# Altium integrated library Integrated_Library1b.IntLib: 1312 symbols (part 40 of 58)
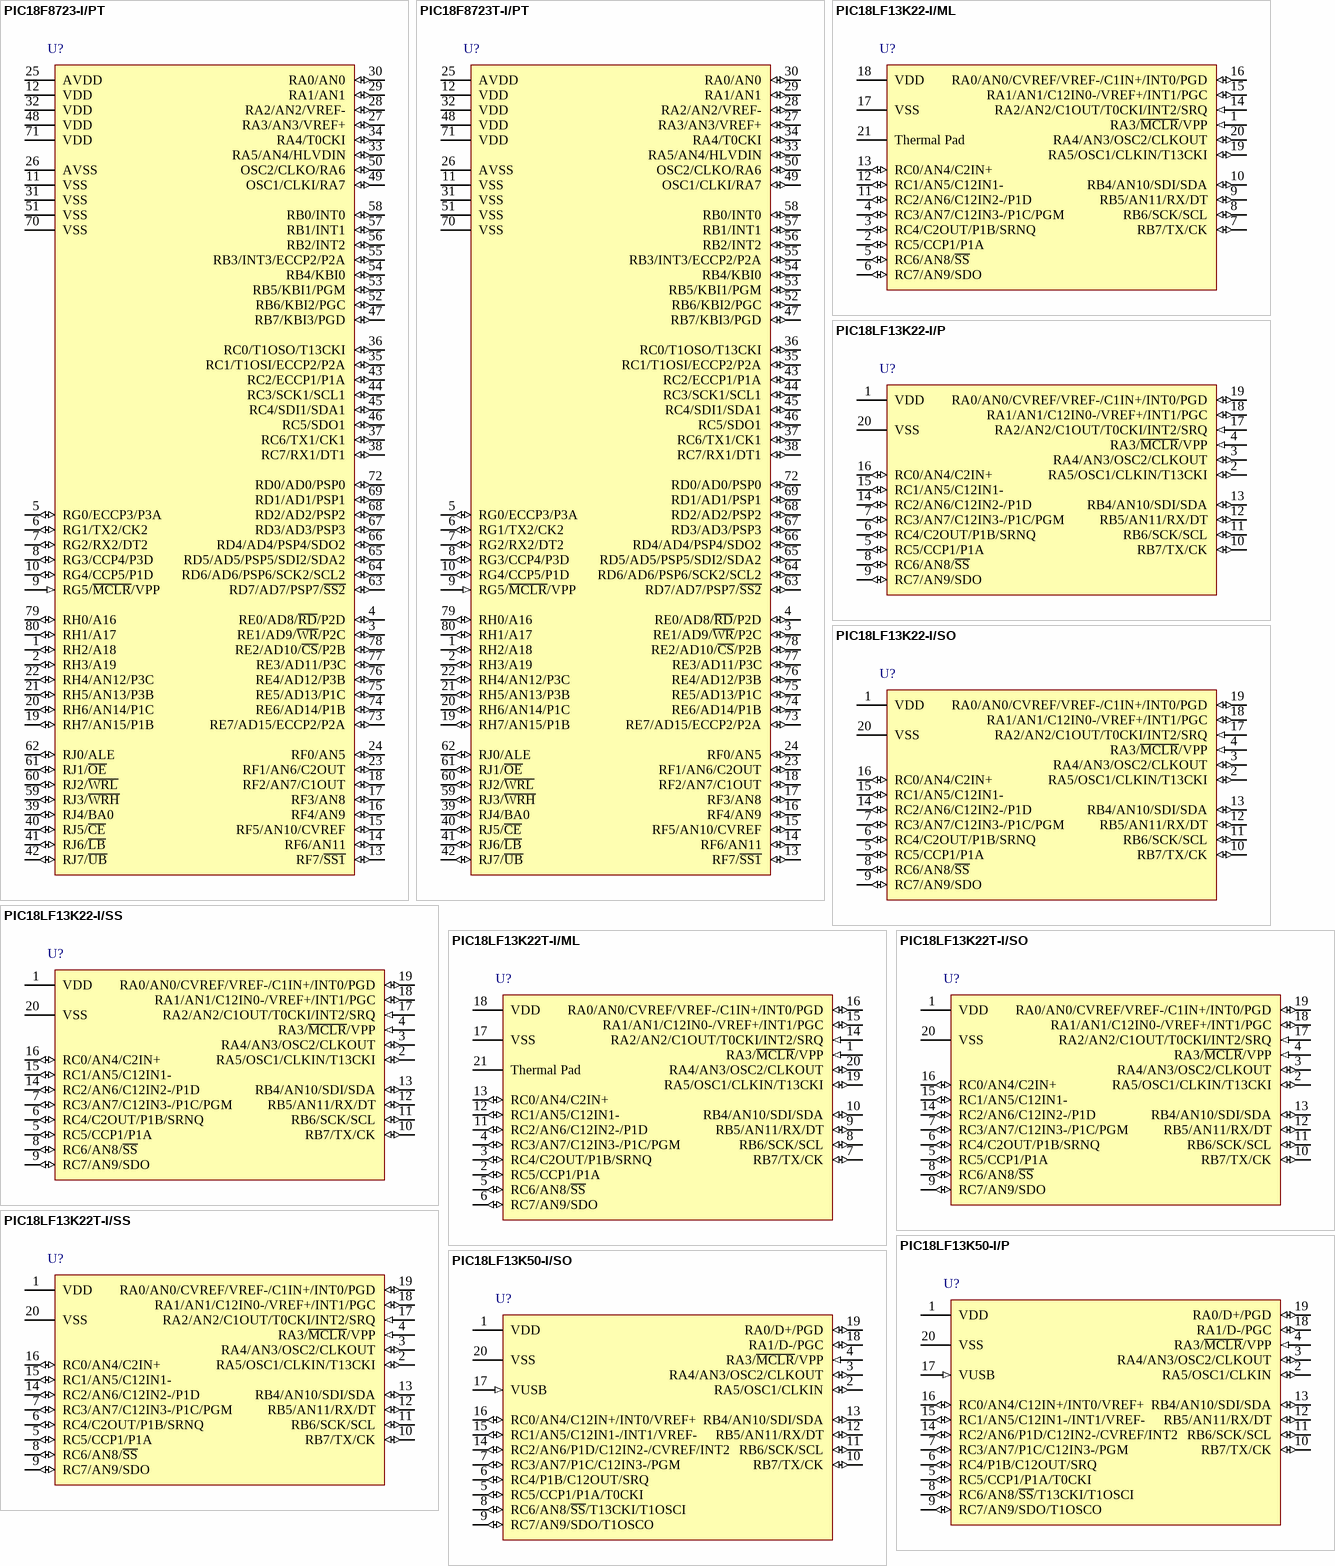
[diagram p188: symbols PIC18F8723-I/PT to PIC18LF13K50-I/SO]

## PIC18LF13K22-I/ML
designator U?
Flash Microcontroller with nanoWatt XLP Technology, 20-pin QFN, Industrial Temperature; FirstPublished: 2-Dec-2009; DatasheetVersion: revC, Oct-2009; PackageVersion: revBB, Aug-2009; PackageReference: QFN-ML20; Publisher: Altium Limited; PackageDescription: 20-Lead Plastic Quad Flat, No Lead Package (ML) - 4x4x0.9 mm Body [QFN]; Supplier 1: Digi-Key; Supplier Part Number 1: PIC18LF13K22-I/ML-ND; Supplier 2: Farnell; Supplier Part Number 2: 1770696; Supplier 3: Newark; Supplier Part Number 3: 07P9694; ComponentLink1Description: Datasheet; ComponentLink1URL: http://ww1.microchip.com/downloads/en/DeviceDoc/41365C.pdf; ComponentLink2Description: Packaging Specification; ComponentLink2URL: http://www.microchip.com/stellent/groups/techpub_sg/documents/packagingspec/en012702.pdf; ComponentLink3Description: Microchip.com Home; ComponentLink3URL: http://www.microchip.com/
footprint QFN-ML20_N (QFN, 20-Leads, Body 4x4mm, Pitch 0.5mm, IPC Medium Density)
footprint QFN-ML20_L (QFN, 20-Leads, Body 4x4mm, Pitch 0.5mm, IPC High Density)
footprint QFN-ML20_M (QFN, 20-Leads, Body 4x4mm, Pitch 0.5mm, IPC Low Density)
pins: 1 RA3/~{MCLR}/VPP (in), 2 RC5/CCP1/P1A (io), 3 RC4/C2OUT/P1B/SRNQ (io), 4 RC3/AN7/C12IN3-/P1C/PGM (io), 5 RC6/AN8/~{SS} (io), 6 RC7/AN9/SDO (io), 7 RB7/TX/CK (io), 8 RB6/SCK/SCL (io), 9 RB5/AN11/RX/DT (io), 10 RB4/AN10/SDI/SDA (io), 11 RC2/AN6/C12IN2-/P1D (io), 12 RC1/AN5/C12IN1- (io), 13 RC0/AN4/C2IN+ (io), 14 RA2/AN2/C1OUT/T0CKI/INT2/SRQ (in), 15 RA1/AN1/C12IN0-/VREF+/INT1/PGC (io), 16 RA0/AN0/CVREF/VREF-/C1IN+/INT0/PGD (io), 17 VSS (power), 18 VDD (power), 19 RA5/OSC1/CLKIN/T13CKI (io), 20 RA4/AN3/OSC2/CLKOUT (io), 21 Thermal Pad (power)

## PIC18LF13K22-I/P
designator U?
Flash Microcontroller with nanoWatt XLP Technology, 20-pin PDIP, Industrial Temperature; FirstPublished: 2-Dec-2009; DatasheetVersion: revC, Oct-2009; PackageVersion: revBB, Aug-2009; PackageReference: PDIP300-P20; Publisher: Altium Limited; PackageDescription: 20-Lead Plastic Dual In-Line (P) - 300 mil Body [PDIP]; Supplier 1: Digi-Key; Supplier Part Number 1: PIC18LF13K22-I/P-ND; Supplier 2: Farnell; Supplier Part Number 2: 1770697; Supplier 3: Newark; Supplier Part Number 3: 07P9695; ComponentLink1Description: Datasheet; ComponentLink1URL: http://ww1.microchip.com/downloads/en/DeviceDoc/41365C.pdf; ComponentLink2Description: Packaging Specification; ComponentLink2URL: http://www.microchip.com/stellent/groups/techpub_sg/documents/packagingspec/en012702.pdf; ComponentLink3Description: Microchip.com Home; ComponentLink3URL: http://www.microchip.com/
footprint PDIP300-P20 (DIP, 20-Leads, Row Spacing 7.62mm, Pitch 2.54mm, Body 25.9x6.6mm)
pins: 1 VDD (power), 2 RA5/OSC1/CLKIN/T13CKI (io), 3 RA4/AN3/OSC2/CLKOUT (io), 4 RA3/~{MCLR}/VPP (in), 5 RC5/CCP1/P1A (io), 6 RC4/C2OUT/P1B/SRNQ (io), 7 RC3/AN7/C12IN3-/P1C/PGM (io), 8 RC6/AN8/~{SS} (io), 9 RC7/AN9/SDO (io), 10 RB7/TX/CK (io), 11 RB6/SCK/SCL (io), 12 RB5/AN11/RX/DT (io), 13 RB4/AN10/SDI/SDA (io), 14 RC2/AN6/C12IN2-/P1D (io), 15 RC1/AN5/C12IN1- (io), 16 RC0/AN4/C2IN+ (io), 17 RA2/AN2/C1OUT/T0CKI/INT2/SRQ (in), 18 RA1/AN1/C12IN0-/VREF+/INT1/PGC (io), 19 RA0/AN0/CVREF/VREF-/C1IN+/INT0/PGD (io), 20 VSS (power)

## PIC18LF13K22-I/SO
designator U?
Flash Microcontroller with nanoWatt XLP Technology, 20-pin SOIC, Industrial Temperature; FirstPublished: 2-Dec-2009; DatasheetVersion: revC, Oct-2009; PackageVersion: revBB, Aug-2009; PackageReference: SOIC-SO20; Publisher: Altium Limited; PackageDescription: 20-Lead Plastic Small Outline (SO) - Wide 7.50mm Body [SOIC]; Supplier 1: Digi-Key; Supplier Part Number 1: PIC18LF13K22-I/SO-ND; Supplier 2: Farnell; Supplier Part Number 2: 1770698; Supplier 3: Newark; Supplier Part Number 3: 07P9696; Code_JEDEC: MS-013-AC; Code_IPC: SOIC127P1030-20; ComponentLink1Description: Datasheet; ComponentLink1URL: http://ww1.microchip.com/downloads/en/DeviceDoc/41365C.pdf; ComponentLink2Description: Packaging Specification; ComponentLink2URL: http://www.microchip.com/stellent/groups/techpub_sg/documents/packagingspec/en012702.pdf; ComponentLink3Description: Microchip.com Home; ComponentLink3URL: http://www.microchip.com/
footprint SOIC-SO20_N (SOIC, 20-Leads, Body 12.8x7.5mm, Pitch 1.27mm, IPC Medium Density)
footprint SOIC-SO20_L (SOIC, 20-Leads, Body 12.8x7.5mm, Pitch 1.27mm, IPC High Density)
footprint SOIC-SO20_M (SOIC, 20-Leads, Body 12.8x7.5mm, Pitch 1.27mm, IPC Low Density)
pins: 1 VDD (power), 2 RA5/OSC1/CLKIN/T13CKI (io), 3 RA4/AN3/OSC2/CLKOUT (io), 4 RA3/~{MCLR}/VPP (in), 5 RC5/CCP1/P1A (io), 6 RC4/C2OUT/P1B/SRNQ (io), 7 RC3/AN7/C12IN3-/P1C/PGM (io), 8 RC6/AN8/~{SS} (io), 9 RC7/AN9/SDO (io), 10 RB7/TX/CK (io), 11 RB6/SCK/SCL (io), 12 RB5/AN11/RX/DT (io), 13 RB4/AN10/SDI/SDA (io), 14 RC2/AN6/C12IN2-/P1D (io), 15 RC1/AN5/C12IN1- (io), 16 RC0/AN4/C2IN+ (io), 17 RA2/AN2/C1OUT/T0CKI/INT2/SRQ (in), 18 RA1/AN1/C12IN0-/VREF+/INT1/PGC (io), 19 RA0/AN0/CVREF/VREF-/C1IN+/INT0/PGD (io), 20 VSS (power)

## PIC18LF13K22-I/SS
designator U?
Flash Microcontroller with nanoWatt XLP Technology, 20-pin SSOP, Industrial Temperature; FirstPublished: 2-Dec-2009; DatasheetVersion: revC, Oct-2009; PackageVersion: revBB, Aug-2009; PackageReference: SSOP-SS20; Publisher: Altium Limited; PackageDescription: 20-Lead Plastic Shrink Small Outline (SS) - 5.3mm Body [SSOP]; Supplier 1: Digi-Key; Supplier Part Number 1: PIC18LF13K22-I/SS-ND; Supplier 2: Farnell; Supplier Part Number 2: 1770699; Supplier 3: Newark; Supplier Part Number 3: 07P9697; Code_JEDEC: MO-150; Code_IPC: SOP65P780-20; ComponentLink1Description: Datasheet; ComponentLink1URL: http://ww1.microchip.com/downloads/en/DeviceDoc/41365C.pdf; ComponentLink2Description: Packaging Specification; ComponentLink2URL: http://www.microchip.com/stellent/groups/techpub_sg/documents/packagingspec/en012702.pdf; ComponentLink3Description: Microchip.com Home; ComponentLink3URL: http://www.microchip.com/
footprint SSOP-SS20_N (SOP, 20-Leads, Body 7.2x5.2mm, Pitch 0.65mm, IPC Medium Density)
footprint SSOP-SS20_L (SOP, 20-Leads, Body 7.2x5.2mm, Pitch 0.65mm, IPC High Density)
footprint SSOP-SS20_M (SOP, 20-Leads, Body 7.2x5.2mm, Pitch 0.65mm, IPC Low Density)
pins: 1 VDD (power), 2 RA5/OSC1/CLKIN/T13CKI (io), 3 RA4/AN3/OSC2/CLKOUT (io), 4 RA3/~{MCLR}/VPP (in), 5 RC5/CCP1/P1A (io), 6 RC4/C2OUT/P1B/SRNQ (io), 7 RC3/AN7/C12IN3-/P1C/PGM (io), 8 RC6/AN8/~{SS} (io), 9 RC7/AN9/SDO (io), 10 RB7/TX/CK (io), 11 RB6/SCK/SCL (io), 12 RB5/AN11/RX/DT (io), 13 RB4/AN10/SDI/SDA (io), 14 RC2/AN6/C12IN2-/P1D (io), 15 RC1/AN5/C12IN1- (io), 16 RC0/AN4/C2IN+ (io), 17 RA2/AN2/C1OUT/T0CKI/INT2/SRQ (in), 18 RA1/AN1/C12IN0-/VREF+/INT1/PGC (io), 19 RA0/AN0/CVREF/VREF-/C1IN+/INT0/PGD (io), 20 VSS (power)

## PIC18LF13K22T-I/ML
designator U?
Flash Microcontroller with nanoWatt XLP Technology, 20-pin QFN, Industrial Temperature, Tape and Reel; FirstPublished: 2-Dec-2009; DatasheetVersion: revC, Oct-2009; PackageVersion: revBB, Aug-2009; PackageReference: QFN-ML20; Publisher: Altium Limited; PackageDescription: 20-Lead Plastic Quad Flat, No Lead Package (ML) - 4x4x0.9 mm Body [QFN]; Supplier 1: Digi-Key; Supplier Part Number 1: PIC18LF13K22T-I/ML-ND; Supplier 2: Newark; Supplier Part Number 2: 07P9698; ComponentLink1Description: Datasheet; ComponentLink1URL: http://ww1.microchip.com/downloads/en/DeviceDoc/41365C.pdf; ComponentLink2Description: Packaging Specification; ComponentLink2URL: http://www.microchip.com/stellent/groups/techpub_sg/documents/packagingspec/en012702.pdf; ComponentLink3Description: Microchip.com Home; ComponentLink3URL: http://www.microchip.com/
footprint QFN-ML20_N (QFN, 20-Leads, Body 4x4mm, Pitch 0.5mm, IPC Medium Density)
footprint QFN-ML20_L (QFN, 20-Leads, Body 4x4mm, Pitch 0.5mm, IPC High Density)
footprint QFN-ML20_M (QFN, 20-Leads, Body 4x4mm, Pitch 0.5mm, IPC Low Density)
pins: 1 RA3/~{MCLR}/VPP (in), 2 RC5/CCP1/P1A (io), 3 RC4/C2OUT/P1B/SRNQ (io), 4 RC3/AN7/C12IN3-/P1C/PGM (io), 5 RC6/AN8/~{SS} (io), 6 RC7/AN9/SDO (io), 7 RB7/TX/CK (io), 8 RB6/SCK/SCL (io), 9 RB5/AN11/RX/DT (io), 10 RB4/AN10/SDI/SDA (io), 11 RC2/AN6/C12IN2-/P1D (io), 12 RC1/AN5/C12IN1- (io), 13 RC0/AN4/C2IN+ (io), 14 RA2/AN2/C1OUT/T0CKI/INT2/SRQ (in), 15 RA1/AN1/C12IN0-/VREF+/INT1/PGC (io), 16 RA0/AN0/CVREF/VREF-/C1IN+/INT0/PGD (io), 17 VSS (power), 18 VDD (power), 19 RA5/OSC1/CLKIN/T13CKI (io), 20 RA4/AN3/OSC2/CLKOUT (io), 21 Thermal Pad (power)

## PIC18LF13K22T-I/SO
designator U?
Flash Microcontroller with nanoWatt XLP Technology, 20-pin SOIC, Industrial Temperature, Tape and Reel; FirstPublished: 2-Dec-2009; DatasheetVersion: revC, Oct-2009; PackageVersion: revBB, Aug-2009; PackageReference: SOIC-SO20; Publisher: Altium Limited; PackageDescription: 20-Lead Plastic Small Outline (SO) - Wide 7.50mm Body [SOIC]; Supplier 1: Digi-Key; Supplier Part Number 1: PIC18LF13K22T-I/SO-ND; Supplier 2: Newark; Supplier Part Number 2: 07P9699; Code_JEDEC: MS-013-AC; Code_IPC: SOIC127P1030-20; ComponentLink1Description: Datasheet; ComponentLink1URL: http://ww1.microchip.com/downloads/en/DeviceDoc/41365C.pdf; ComponentLink2Description: Packaging Specification; ComponentLink2URL: http://www.microchip.com/stellent/groups/techpub_sg/documents/packagingspec/en012702.pdf; ComponentLink3Description: Microchip.com Home; ComponentLink3URL: http://www.microchip.com/
footprint SOIC-SO20_N (SOIC, 20-Leads, Body 12.8x7.5mm, Pitch 1.27mm, IPC Medium Density)
footprint SOIC-SO20_L (SOIC, 20-Leads, Body 12.8x7.5mm, Pitch 1.27mm, IPC High Density)
footprint SOIC-SO20_M (SOIC, 20-Leads, Body 12.8x7.5mm, Pitch 1.27mm, IPC Low Density)
pins: 1 VDD (power), 2 RA5/OSC1/CLKIN/T13CKI (io), 3 RA4/AN3/OSC2/CLKOUT (io), 4 RA3/~{MCLR}/VPP (in), 5 RC5/CCP1/P1A (io), 6 RC4/C2OUT/P1B/SRNQ (io), 7 RC3/AN7/C12IN3-/P1C/PGM (io), 8 RC6/AN8/~{SS} (io), 9 RC7/AN9/SDO (io), 10 RB7/TX/CK (io), 11 RB6/SCK/SCL (io), 12 RB5/AN11/RX/DT (io), 13 RB4/AN10/SDI/SDA (io), 14 RC2/AN6/C12IN2-/P1D (io), 15 RC1/AN5/C12IN1- (io), 16 RC0/AN4/C2IN+ (io), 17 RA2/AN2/C1OUT/T0CKI/INT2/SRQ (in), 18 RA1/AN1/C12IN0-/VREF+/INT1/PGC (io), 19 RA0/AN0/CVREF/VREF-/C1IN+/INT0/PGD (io), 20 VSS (power)

## PIC18LF13K22T-I/SS
designator U?
Flash Microcontroller with nanoWatt XLP Technology, 20-pin SSOP, Industrial Temperature, Tape and Reel; FirstPublished: 2-Dec-2009; DatasheetVersion: revC, Oct-2009; PackageVersion: revBB, Aug-2009; PackageReference: SSOP-SS20; Publisher: Altium Limited; PackageDescription: 20-Lead Plastic Shrink Small Outline (SS) - 5.3mm Body [SSOP]; Supplier 1: Digi-Key; Supplier Part Number 1: PIC18LF13K22T-I/SS-ND; Supplier 2: Newark; Supplier Part Number 2: 07P9700; Code_JEDEC: MO-150; Code_IPC: SOP65P780-20; ComponentLink1Description: Datasheet; ComponentLink1URL: http://ww1.microchip.com/downloads/en/DeviceDoc/41365C.pdf; ComponentLink2Description: Packaging Specification; ComponentLink2URL: http://www.microchip.com/stellent/groups/techpub_sg/documents/packagingspec/en012702.pdf; ComponentLink3Description: Microchip.com Home; ComponentLink3URL: http://www.microchip.com/
footprint SSOP-SS20_N (SOP, 20-Leads, Body 7.2x5.2mm, Pitch 0.65mm, IPC Medium Density)
footprint SSOP-SS20_L (SOP, 20-Leads, Body 7.2x5.2mm, Pitch 0.65mm, IPC High Density)
footprint SSOP-SS20_M (SOP, 20-Leads, Body 7.2x5.2mm, Pitch 0.65mm, IPC Low Density)
pins: 1 VDD (power), 2 RA5/OSC1/CLKIN/T13CKI (io), 3 RA4/AN3/OSC2/CLKOUT (io), 4 RA3/~{MCLR}/VPP (in), 5 RC5/CCP1/P1A (io), 6 RC4/C2OUT/P1B/SRNQ (io), 7 RC3/AN7/C12IN3-/P1C/PGM (io), 8 RC6/AN8/~{SS} (io), 9 RC7/AN9/SDO (io), 10 RB7/TX/CK (io), 11 RB6/SCK/SCL (io), 12 RB5/AN11/RX/DT (io), 13 RB4/AN10/SDI/SDA (io), 14 RC2/AN6/C12IN2-/P1D (io), 15 RC1/AN5/C12IN1- (io), 16 RC0/AN4/C2IN+ (io), 17 RA2/AN2/C1OUT/T0CKI/INT2/SRQ (in), 18 RA1/AN1/C12IN0-/VREF+/INT1/PGC (io), 19 RA0/AN0/CVREF/VREF-/C1IN+/INT0/PGD (io), 20 VSS (power)

## PIC18LF13K50-I/P
designator U?
USB Flash Microcontroller with nanoWatt XLP Technology, 20-pin PDIP, Industrial Temperature; FirstPublished: 2-Dec-2009; DatasheetVersion: revC, Mar-2009; PackageVersion: revBB, Aug-2009; PackageReference: PDIP300-P20; Publisher: Altium Limited; PackageDescription: 20-Lead Plastic Dual In-Line (P) - 300 mil Body [PDIP]; Supplier 1: Digi-Key; Supplier Part Number 1: PIC18LF13K50-I/P-ND; Supplier 2: Farnell; Supplier Part Number 2: 1697074; Supplier 3: Newark; Supplier Part Number 3: 07P9701; ComponentLink1Description: Datasheet; ComponentLink1URL: http://ww1.microchip.com/downloads/en/DeviceDoc/41350C.pdf; ComponentLink2Description: Packaging Specification; ComponentLink2URL: http://www.microchip.com/stellent/groups/techpub_sg/documents/packagingspec/en012702.pdf; ComponentLink3Description: Microchip.com Home; ComponentLink3URL: http://www.microchip.com/
footprint PDIP300-P20 (DIP, 20-Leads, Row Spacing 7.62mm, Pitch 2.54mm, Body 25.9x6.6mm)
pins: 1 VDD (power), 2 RA5/OSC1/CLKIN (io), 3 RA4/AN3/OSC2/CLKOUT (io), 4 RA3/~{MCLR}/VPP (in), 5 RC5/CCP1/P1A/T0CKI (io), 6 RC4/P1B/C12OUT/SRQ (io), 7 RC3/AN7/P1C/C12IN3-/PGM (io), 8 RC6/AN8/~{SS}/T13CKI/T1OSCI (io), 9 RC7/AN9/SDO/T1OSCO (io), 10 RB7/TX/CK (io), 11 RB6/SCK/SCL (io), 12 RB5/AN11/RX/DT (io), 13 RB4/AN10/SDI/SDA (io), 14 RC2/AN6/P1D/C12IN2-/CVREF/INT2 (io), 15 RC1/AN5/C12IN1-/INT1/VREF- (io), 16 RC0/AN4/C12IN+/INT0/VREF+ (io), 17 VUSB (in), 18 RA1/D-/PGC (io), 19 RA0/D+/PGD (io), 20 VSS (power)

## PIC18LF13K50-I/SO
designator U?
USB Flash Microcontroller with nanoWatt XLP Technology, 20-pin SOIC, Industrial Temperature; FirstPublished: 2-Dec-2009; DatasheetVersion: revC, Mar-2009; PackageVersion: revBB, Aug-2009; PackageReference: SOIC-SO20; Publisher: Altium Limited; PackageDescription: 20-Lead Plastic Small Outline (SO) - Wide 7.50mm Body [SOIC]; Supplier 1: Digi-Key; Supplier Part Number 1: PIC18LF13K50-I/SO-ND; Supplier 2: Farnell; Supplier Part Number 2: 1712889; Supplier 3: Newark; Supplier Part Number 3: 07P9702; Code_JEDEC: MS-013-AC; Code_IPC: SOIC127P1030-20; ComponentLink1Description: Datasheet; ComponentLink1URL: http://ww1.microchip.com/downloads/en/DeviceDoc/41350C.pdf; ComponentLink2Description: Packaging Specification; ComponentLink2URL: http://www.microchip.com/stellent/groups/techpub_sg/documents/packagingspec/en012702.pdf; ComponentLink3Description: Microchip.com Home; ComponentLink3URL: http://www.microchip.com/
footprint SOIC-SO20_N (SOIC, 20-Leads, Body 12.8x7.5mm, Pitch 1.27mm, IPC Medium Density)
footprint SOIC-SO20_L (SOIC, 20-Leads, Body 12.8x7.5mm, Pitch 1.27mm, IPC High Density)
footprint SOIC-SO20_M (SOIC, 20-Leads, Body 12.8x7.5mm, Pitch 1.27mm, IPC Low Density)
pins: 1 VDD (power), 2 RA5/OSC1/CLKIN (io), 3 RA4/AN3/OSC2/CLKOUT (io), 4 RA3/~{MCLR}/VPP (in), 5 RC5/CCP1/P1A/T0CKI (io), 6 RC4/P1B/C12OUT/SRQ (io), 7 RC3/AN7/P1C/C12IN3-/PGM (io), 8 RC6/AN8/~{SS}/T13CKI/T1OSCI (io), 9 RC7/AN9/SDO/T1OSCO (io), 10 RB7/TX/CK (io), 11 RB6/SCK/SCL (io), 12 RB5/AN11/RX/DT (io), 13 RB4/AN10/SDI/SDA (io), 14 RC2/AN6/P1D/C12IN2-/CVREF/INT2 (io), 15 RC1/AN5/C12IN1-/INT1/VREF- (io), 16 RC0/AN4/C12IN+/INT0/VREF+ (io), 17 VUSB (in), 18 RA1/D-/PGC (io), 19 RA0/D+/PGD (io), 20 VSS (power)

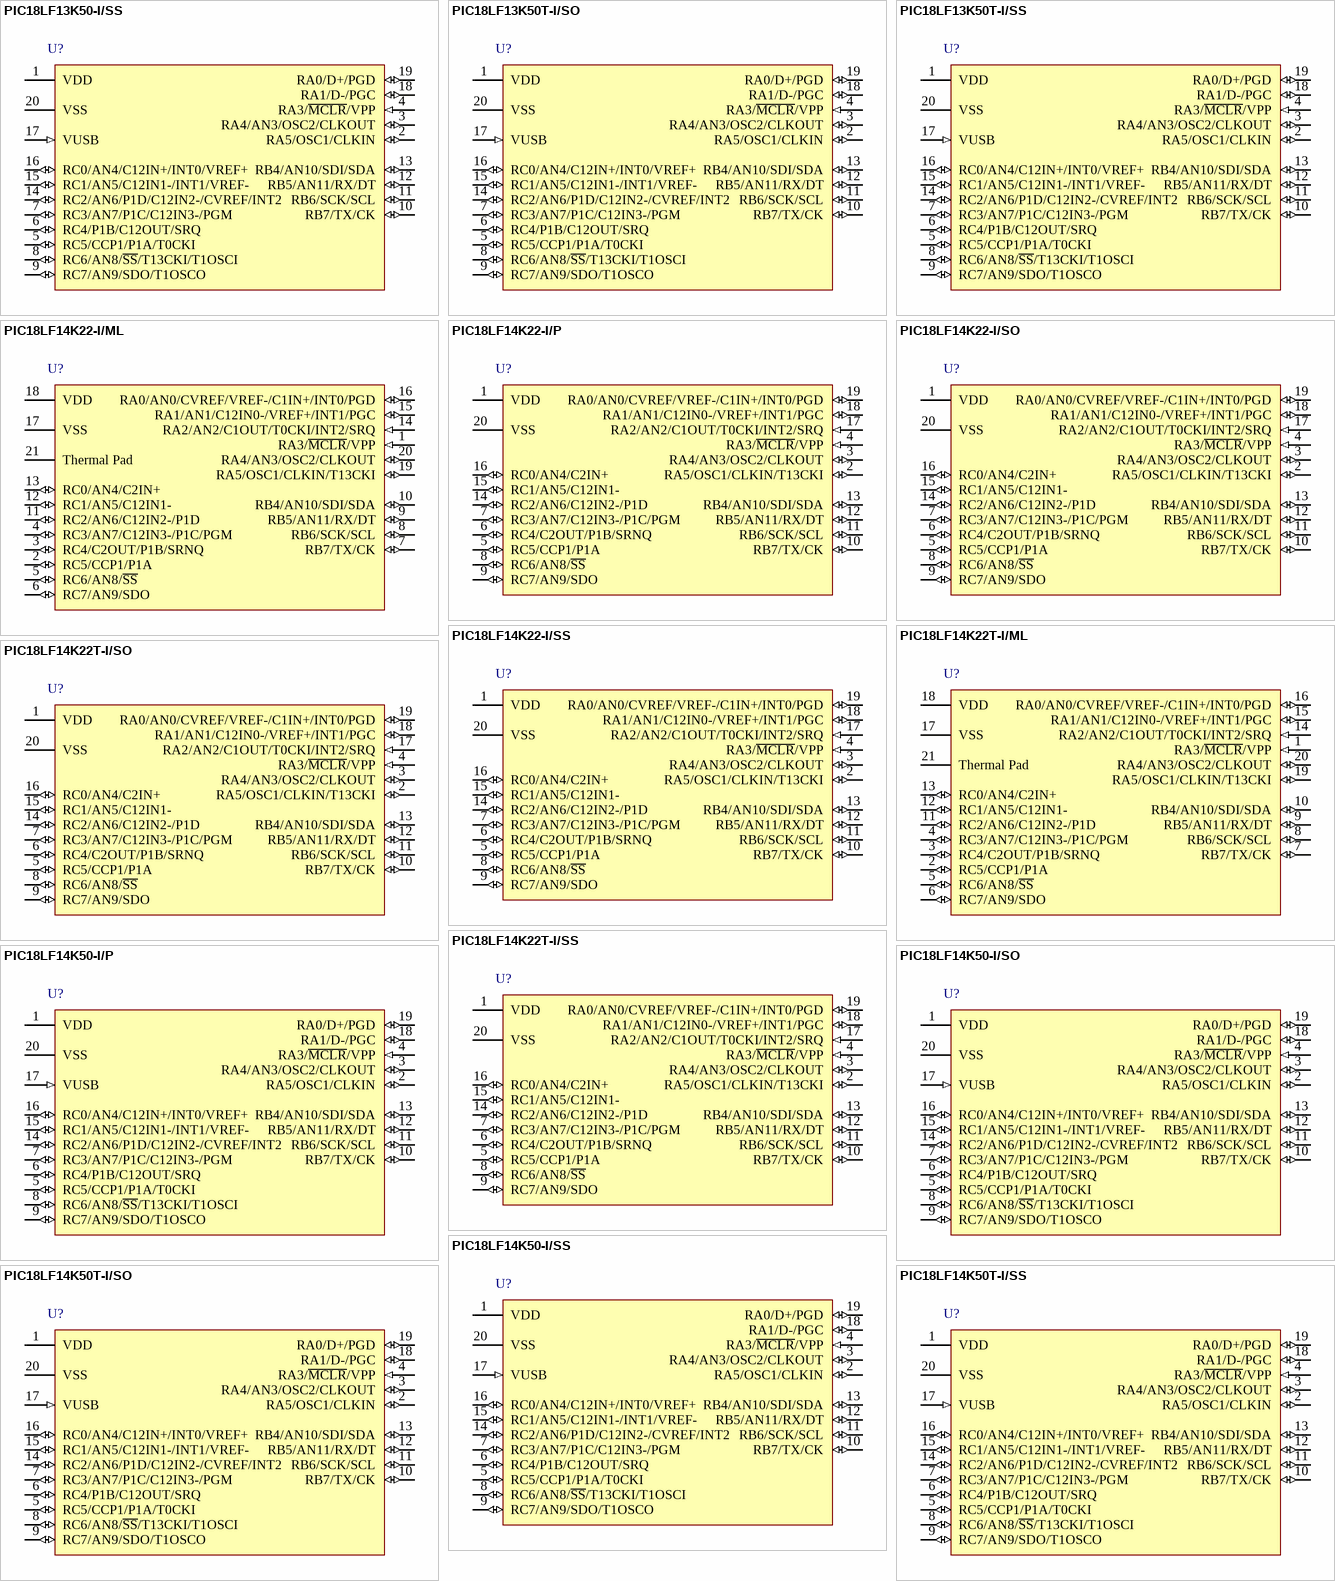
[diagram p105: symbols PIC18LF13K50-I/SS to PIC18LF14K50T-I/SS]

## PIC18LF13K50-I/SS
designator U?
USB Flash Microcontroller with nanoWatt XLP Technology, 20-pin SSOP, Industrial Temperature; FirstPublished: 2-Dec-2009; DatasheetVersion: revC, Mar-2009; PackageVersion: revBB, Aug-2009; PackageReference: SSOP-SS20; Publisher: Altium Limited; PackageDescription: 20-Lead Plastic Shrink Small Outline (SS) - 5.3mm Body [SSOP]; Supplier 1: Digi-Key; Supplier Part Number 1: PIC18LF13K50-I/SS-ND; Supplier 2: Farnell; Supplier Part Number 2: 1712890; Supplier 3: Newark; Supplier Part Number 3: 07P9703; Code_JEDEC: MO-150; Code_IPC: SOP65P780-20; ComponentLink1Description: Datasheet; ComponentLink1URL: http://ww1.microchip.com/downloads/en/DeviceDoc/41350C.pdf; ComponentLink2Description: Packaging Specification; ComponentLink2URL: http://www.microchip.com/stellent/groups/techpub_sg/documents/packagingspec/en012702.pdf; ComponentLink3Description: Microchip.com Home; ComponentLink3URL: http://www.microchip.com/
footprint SSOP-SS20_N (SOP, 20-Leads, Body 7.2x5.2mm, Pitch 0.65mm, IPC Medium Density)
footprint SSOP-SS20_L (SOP, 20-Leads, Body 7.2x5.2mm, Pitch 0.65mm, IPC High Density)
footprint SSOP-SS20_M (SOP, 20-Leads, Body 7.2x5.2mm, Pitch 0.65mm, IPC Low Density)
pins: 1 VDD (power), 2 RA5/OSC1/CLKIN (io), 3 RA4/AN3/OSC2/CLKOUT (io), 4 RA3/~{MCLR}/VPP (in), 5 RC5/CCP1/P1A/T0CKI (io), 6 RC4/P1B/C12OUT/SRQ (io), 7 RC3/AN7/P1C/C12IN3-/PGM (io), 8 RC6/AN8/~{SS}/T13CKI/T1OSCI (io), 9 RC7/AN9/SDO/T1OSCO (io), 10 RB7/TX/CK (io), 11 RB6/SCK/SCL (io), 12 RB5/AN11/RX/DT (io), 13 RB4/AN10/SDI/SDA (io), 14 RC2/AN6/P1D/C12IN2-/CVREF/INT2 (io), 15 RC1/AN5/C12IN1-/INT1/VREF- (io), 16 RC0/AN4/C12IN+/INT0/VREF+ (io), 17 VUSB (in), 18 RA1/D-/PGC (io), 19 RA0/D+/PGD (io), 20 VSS (power)

## PIC18LF13K50T-I/SO
designator U?
USB Flash Microcontroller with nanoWatt XLP Technology, 20-pin SOIC, Industrial Temperature, Tape and Reel; FirstPublished: 2-Dec-2009; DatasheetVersion: revC, Mar-2009; PackageVersion: revBB, Aug-2009; PackageReference: SOIC-SO20; Publisher: Altium Limited; PackageDescription: 20-Lead Plastic Small Outline (SO) - Wide 7.50mm Body [SOIC]; Supplier 1: Digi-Key; Supplier Part Number 1: PIC18LF13K50T-I/SO-ND; Supplier 2: Newark; Supplier Part Number 2: 07P9704; Code_JEDEC: MS-013-AC; Code_IPC: SOIC127P1030-20; ComponentLink1Description: Datasheet; ComponentLink1URL: http://ww1.microchip.com/downloads/en/DeviceDoc/41350C.pdf; ComponentLink2Description: Packaging Specification; ComponentLink2URL: http://www.microchip.com/stellent/groups/techpub_sg/documents/packagingspec/en012702.pdf; ComponentLink3Description: Microchip.com Home; ComponentLink3URL: http://www.microchip.com/
footprint SOIC-SO20_N (SOIC, 20-Leads, Body 12.8x7.5mm, Pitch 1.27mm, IPC Medium Density)
footprint SOIC-SO20_L (SOIC, 20-Leads, Body 12.8x7.5mm, Pitch 1.27mm, IPC High Density)
footprint SOIC-SO20_M (SOIC, 20-Leads, Body 12.8x7.5mm, Pitch 1.27mm, IPC Low Density)
pins: 1 VDD (power), 2 RA5/OSC1/CLKIN (io), 3 RA4/AN3/OSC2/CLKOUT (io), 4 RA3/~{MCLR}/VPP (in), 5 RC5/CCP1/P1A/T0CKI (io), 6 RC4/P1B/C12OUT/SRQ (io), 7 RC3/AN7/P1C/C12IN3-/PGM (io), 8 RC6/AN8/~{SS}/T13CKI/T1OSCI (io), 9 RC7/AN9/SDO/T1OSCO (io), 10 RB7/TX/CK (io), 11 RB6/SCK/SCL (io), 12 RB5/AN11/RX/DT (io), 13 RB4/AN10/SDI/SDA (io), 14 RC2/AN6/P1D/C12IN2-/CVREF/INT2 (io), 15 RC1/AN5/C12IN1-/INT1/VREF- (io), 16 RC0/AN4/C12IN+/INT0/VREF+ (io), 17 VUSB (in), 18 RA1/D-/PGC (io), 19 RA0/D+/PGD (io), 20 VSS (power)

## PIC18LF13K50T-I/SS
designator U?
USB Flash Microcontroller with nanoWatt XLP Technology, 20-pin SSOP, Industrial Temperature, Tape and Reel; FirstPublished: 2-Dec-2009; DatasheetVersion: revC, Mar-2009; PackageVersion: revBB, Aug-2009; PackageReference: SSOP-SS20; Publisher: Altium Limited; PackageDescription: 20-Lead Plastic Shrink Small Outline (SS) - 5.3mm Body [SSOP]; Supplier 1: Digi-Key; Supplier Part Number 1: PIC18LF13K50T-I/SS-ND; Supplier 2: Newark; Supplier Part Number 2: 07P9705; Code_JEDEC: MO-150; Code_IPC: SOP65P780-20; ComponentLink1Description: Datasheet; ComponentLink1URL: http://ww1.microchip.com/downloads/en/DeviceDoc/41350C.pdf; ComponentLink2Description: Packaging Specification; ComponentLink2URL: http://www.microchip.com/stellent/groups/techpub_sg/documents/packagingspec/en012702.pdf; ComponentLink3Description: Microchip.com Home; ComponentLink3URL: http://www.microchip.com/
footprint SSOP-SS20_N (SOP, 20-Leads, Body 7.2x5.2mm, Pitch 0.65mm, IPC Medium Density)
footprint SSOP-SS20_L (SOP, 20-Leads, Body 7.2x5.2mm, Pitch 0.65mm, IPC High Density)
footprint SSOP-SS20_M (SOP, 20-Leads, Body 7.2x5.2mm, Pitch 0.65mm, IPC Low Density)
pins: 1 VDD (power), 2 RA5/OSC1/CLKIN (io), 3 RA4/AN3/OSC2/CLKOUT (io), 4 RA3/~{MCLR}/VPP (in), 5 RC5/CCP1/P1A/T0CKI (io), 6 RC4/P1B/C12OUT/SRQ (io), 7 RC3/AN7/P1C/C12IN3-/PGM (io), 8 RC6/AN8/~{SS}/T13CKI/T1OSCI (io), 9 RC7/AN9/SDO/T1OSCO (io), 10 RB7/TX/CK (io), 11 RB6/SCK/SCL (io), 12 RB5/AN11/RX/DT (io), 13 RB4/AN10/SDI/SDA (io), 14 RC2/AN6/P1D/C12IN2-/CVREF/INT2 (io), 15 RC1/AN5/C12IN1-/INT1/VREF- (io), 16 RC0/AN4/C12IN+/INT0/VREF+ (io), 17 VUSB (in), 18 RA1/D-/PGC (io), 19 RA0/D+/PGD (io), 20 VSS (power)

## PIC18LF14K22-I/ML
designator U?
Flash Microcontroller with nanoWatt XLP Technology, 20-pin QFN, Industrial Temperature; FirstPublished: 2-Dec-2009; DatasheetVersion: revC, Oct-2009; PackageVersion: revBB, Aug-2009; PackageReference: QFN-ML20; Publisher: Altium Limited; PackageDescription: 20-Lead Plastic Quad Flat, No Lead Package (ML) - 4x4x0.9 mm Body [QFN]; Supplier 1: Digi-Key; Supplier Part Number 1: PIC18LF14K22-I/ML-ND; Supplier 2: Farnell; Supplier Part Number 2: 1770701; Supplier 3: Newark; Supplier Part Number 3: 07P9710; ComponentLink1Description: Datasheet; ComponentLink1URL: http://ww1.microchip.com/downloads/en/DeviceDoc/41365C.pdf; ComponentLink2Description: Packaging Specification; ComponentLink2URL: http://www.microchip.com/stellent/groups/techpub_sg/documents/packagingspec/en012702.pdf; ComponentLink3Description: Microchip.com Home; ComponentLink3URL: http://www.microchip.com/
footprint QFN-ML20_N (QFN, 20-Leads, Body 4x4mm, Pitch 0.5mm, IPC Medium Density)
footprint QFN-ML20_L (QFN, 20-Leads, Body 4x4mm, Pitch 0.5mm, IPC High Density)
footprint QFN-ML20_M (QFN, 20-Leads, Body 4x4mm, Pitch 0.5mm, IPC Low Density)
pins: 1 RA3/~{MCLR}/VPP (in), 2 RC5/CCP1/P1A (io), 3 RC4/C2OUT/P1B/SRNQ (io), 4 RC3/AN7/C12IN3-/P1C/PGM (io), 5 RC6/AN8/~{SS} (io), 6 RC7/AN9/SDO (io), 7 RB7/TX/CK (io), 8 RB6/SCK/SCL (io), 9 RB5/AN11/RX/DT (io), 10 RB4/AN10/SDI/SDA (io), 11 RC2/AN6/C12IN2-/P1D (io), 12 RC1/AN5/C12IN1- (io), 13 RC0/AN4/C2IN+ (io), 14 RA2/AN2/C1OUT/T0CKI/INT2/SRQ (in), 15 RA1/AN1/C12IN0-/VREF+/INT1/PGC (io), 16 RA0/AN0/CVREF/VREF-/C1IN+/INT0/PGD (io), 17 VSS (power), 18 VDD (power), 19 RA5/OSC1/CLKIN/T13CKI (io), 20 RA4/AN3/OSC2/CLKOUT (io), 21 Thermal Pad (power)

## PIC18LF14K22-I/P
designator U?
Flash Microcontroller with nanoWatt XLP Technology, 20-pin PDIP, Industrial Temperature; FirstPublished: 2-Dec-2009; DatasheetVersion: revC, Oct-2009; PackageVersion: revBB, Aug-2009; PackageReference: PDIP300-P20; Publisher: Altium Limited; PackageDescription: 20-Lead Plastic Dual In-Line (P) - 300 mil Body [PDIP]; Supplier 1: Digi-Key; Supplier Part Number 1: PIC18LF14K22-I/P-ND; Supplier 2: Farnell; Supplier Part Number 2: 1770702; Supplier 3: Newark; Supplier Part Number 3: 07P9711; ComponentLink1Description: Datasheet; ComponentLink1URL: http://ww1.microchip.com/downloads/en/DeviceDoc/41365C.pdf; ComponentLink2Description: Packaging Specification; ComponentLink2URL: http://www.microchip.com/stellent/groups/techpub_sg/documents/packagingspec/en012702.pdf; ComponentLink3Description: Microchip.com Home; ComponentLink3URL: http://www.microchip.com/
footprint PDIP300-P20 (DIP, 20-Leads, Row Spacing 7.62mm, Pitch 2.54mm, Body 25.9x6.6mm)
pins: 1 VDD (power), 2 RA5/OSC1/CLKIN/T13CKI (io), 3 RA4/AN3/OSC2/CLKOUT (io), 4 RA3/~{MCLR}/VPP (in), 5 RC5/CCP1/P1A (io), 6 RC4/C2OUT/P1B/SRNQ (io), 7 RC3/AN7/C12IN3-/P1C/PGM (io), 8 RC6/AN8/~{SS} (io), 9 RC7/AN9/SDO (io), 10 RB7/TX/CK (io), 11 RB6/SCK/SCL (io), 12 RB5/AN11/RX/DT (io), 13 RB4/AN10/SDI/SDA (io), 14 RC2/AN6/C12IN2-/P1D (io), 15 RC1/AN5/C12IN1- (io), 16 RC0/AN4/C2IN+ (io), 17 RA2/AN2/C1OUT/T0CKI/INT2/SRQ (in), 18 RA1/AN1/C12IN0-/VREF+/INT1/PGC (io), 19 RA0/AN0/CVREF/VREF-/C1IN+/INT0/PGD (io), 20 VSS (power)

## PIC18LF14K22-I/SO
designator U?
Flash Microcontroller with nanoWatt XLP Technology, 20-pin SOIC, Industrial Temperature; FirstPublished: 2-Dec-2009; DatasheetVersion: revC, Oct-2009; PackageVersion: revBB, Aug-2009; PackageReference: SOIC-SO20; Publisher: Altium Limited; PackageDescription: 20-Lead Plastic Small Outline (SO) - Wide 7.50mm Body [SOIC]; Supplier 1: Digi-Key; Supplier Part Number 1: PIC18LF14K22-I/SO-ND; Supplier 2: Farnell; Supplier Part Number 2: 1770703; Supplier 3: Newark; Supplier Part Number 3: 07P9712; Code_JEDEC: MS-013-AC; Code_IPC: SOIC127P1030-20; ComponentLink1Description: Datasheet; ComponentLink1URL: http://ww1.microchip.com/downloads/en/DeviceDoc/41365C.pdf; ComponentLink2Description: Packaging Specification; ComponentLink2URL: http://www.microchip.com/stellent/groups/techpub_sg/documents/packagingspec/en012702.pdf; ComponentLink3Description: Microchip.com Home; ComponentLink3URL: http://www.microchip.com/
footprint SOIC-SO20_N (SOIC, 20-Leads, Body 12.8x7.5mm, Pitch 1.27mm, IPC Medium Density)
footprint SOIC-SO20_L (SOIC, 20-Leads, Body 12.8x7.5mm, Pitch 1.27mm, IPC High Density)
footprint SOIC-SO20_M (SOIC, 20-Leads, Body 12.8x7.5mm, Pitch 1.27mm, IPC Low Density)
pins: 1 VDD (power), 2 RA5/OSC1/CLKIN/T13CKI (io), 3 RA4/AN3/OSC2/CLKOUT (io), 4 RA3/~{MCLR}/VPP (in), 5 RC5/CCP1/P1A (io), 6 RC4/C2OUT/P1B/SRNQ (io), 7 RC3/AN7/C12IN3-/P1C/PGM (io), 8 RC6/AN8/~{SS} (io), 9 RC7/AN9/SDO (io), 10 RB7/TX/CK (io), 11 RB6/SCK/SCL (io), 12 RB5/AN11/RX/DT (io), 13 RB4/AN10/SDI/SDA (io), 14 RC2/AN6/C12IN2-/P1D (io), 15 RC1/AN5/C12IN1- (io), 16 RC0/AN4/C2IN+ (io), 17 RA2/AN2/C1OUT/T0CKI/INT2/SRQ (in), 18 RA1/AN1/C12IN0-/VREF+/INT1/PGC (io), 19 RA0/AN0/CVREF/VREF-/C1IN+/INT0/PGD (io), 20 VSS (power)

## PIC18LF14K22-I/SS
designator U?
Flash Microcontroller with nanoWatt XLP Technology, 20-pin SSOP, Industrial Temperature; FirstPublished: 2-Dec-2009; DatasheetVersion: revC, Oct-2009; PackageVersion: revBB, Aug-2009; PackageReference: SSOP-SS20; Publisher: Altium Limited; PackageDescription: 20-Lead Plastic Shrink Small Outline (SS) - 5.3mm Body [SSOP]; Supplier 1: Digi-Key; Supplier Part Number 1: PIC18LF14K22-I/SS-ND; Supplier 2: Farnell; Supplier Part Number 2: 1770704; Supplier 3: Newark; Supplier Part Number 3: 07P9713; Code_JEDEC: MO-150; Code_IPC: SOP65P780-20; ComponentLink1Description: Datasheet; ComponentLink1URL: http://ww1.microchip.com/downloads/en/DeviceDoc/41365C.pdf; ComponentLink2Description: Packaging Specification; ComponentLink2URL: http://www.microchip.com/stellent/groups/techpub_sg/documents/packagingspec/en012702.pdf; ComponentLink3Description: Microchip.com Home; ComponentLink3URL: http://www.microchip.com/
footprint SSOP-SS20_N (SOP, 20-Leads, Body 7.2x5.2mm, Pitch 0.65mm, IPC Medium Density)
footprint SSOP-SS20_L (SOP, 20-Leads, Body 7.2x5.2mm, Pitch 0.65mm, IPC High Density)
footprint SSOP-SS20_M (SOP, 20-Leads, Body 7.2x5.2mm, Pitch 0.65mm, IPC Low Density)
pins: 1 VDD (power), 2 RA5/OSC1/CLKIN/T13CKI (io), 3 RA4/AN3/OSC2/CLKOUT (io), 4 RA3/~{MCLR}/VPP (in), 5 RC5/CCP1/P1A (io), 6 RC4/C2OUT/P1B/SRNQ (io), 7 RC3/AN7/C12IN3-/P1C/PGM (io), 8 RC6/AN8/~{SS} (io), 9 RC7/AN9/SDO (io), 10 RB7/TX/CK (io), 11 RB6/SCK/SCL (io), 12 RB5/AN11/RX/DT (io), 13 RB4/AN10/SDI/SDA (io), 14 RC2/AN6/C12IN2-/P1D (io), 15 RC1/AN5/C12IN1- (io), 16 RC0/AN4/C2IN+ (io), 17 RA2/AN2/C1OUT/T0CKI/INT2/SRQ (in), 18 RA1/AN1/C12IN0-/VREF+/INT1/PGC (io), 19 RA0/AN0/CVREF/VREF-/C1IN+/INT0/PGD (io), 20 VSS (power)

## PIC18LF14K22T-I/ML
designator U?
Flash Microcontroller with nanoWatt XLP Technology, 20-pin QFN, Industrial Temperature, Tape and Reel; FirstPublished: 2-Dec-2009; DatasheetVersion: revC, Oct-2009; PackageVersion: revBB, Aug-2009; PackageReference: QFN-ML20; Publisher: Altium Limited; PackageDescription: 20-Lead Plastic Quad Flat, No Lead Package (ML) - 4x4x0.9 mm Body [QFN]; Supplier 1: Digi-Key; Supplier Part Number 1: PIC18LF14K22T-I/ML-ND; Supplier 2: Newark; Supplier Part Number 2: 07P9714; ComponentLink1Description: Datasheet; ComponentLink1URL: http://ww1.microchip.com/downloads/en/DeviceDoc/41365C.pdf; ComponentLink2Description: Packaging Specification; ComponentLink2URL: http://www.microchip.com/stellent/groups/techpub_sg/documents/packagingspec/en012702.pdf; ComponentLink3Description: Microchip.com Home; ComponentLink3URL: http://www.microchip.com/
footprint QFN-ML20_N (QFN, 20-Leads, Body 4x4mm, Pitch 0.5mm, IPC Medium Density)
footprint QFN-ML20_L (QFN, 20-Leads, Body 4x4mm, Pitch 0.5mm, IPC High Density)
footprint QFN-ML20_M (QFN, 20-Leads, Body 4x4mm, Pitch 0.5mm, IPC Low Density)
pins: 1 RA3/~{MCLR}/VPP (in), 2 RC5/CCP1/P1A (io), 3 RC4/C2OUT/P1B/SRNQ (io), 4 RC3/AN7/C12IN3-/P1C/PGM (io), 5 RC6/AN8/~{SS} (io), 6 RC7/AN9/SDO (io), 7 RB7/TX/CK (io), 8 RB6/SCK/SCL (io), 9 RB5/AN11/RX/DT (io), 10 RB4/AN10/SDI/SDA (io), 11 RC2/AN6/C12IN2-/P1D (io), 12 RC1/AN5/C12IN1- (io), 13 RC0/AN4/C2IN+ (io), 14 RA2/AN2/C1OUT/T0CKI/INT2/SRQ (in), 15 RA1/AN1/C12IN0-/VREF+/INT1/PGC (io), 16 RA0/AN0/CVREF/VREF-/C1IN+/INT0/PGD (io), 17 VSS (power), 18 VDD (power), 19 RA5/OSC1/CLKIN/T13CKI (io), 20 RA4/AN3/OSC2/CLKOUT (io), 21 Thermal Pad (power)

## PIC18LF14K22T-I/SO
designator U?
Flash Microcontroller with nanoWatt XLP Technology, 20-pin SOIC, Industrial Temperature, Tape and Reel; FirstPublished: 2-Dec-2009; DatasheetVersion: revC, Oct-2009; PackageVersion: revBB, Aug-2009; PackageReference: SOIC-SO20; Publisher: Altium Limited; PackageDescription: 20-Lead Plastic Small Outline (SO) - Wide 7.50mm Body [SOIC]; Supplier 1: Digi-Key; Supplier Part Number 1: PIC18LF14K22T-I/SO-ND; Supplier 2: Newark; Supplier Part Number 2: 07P9715; Code_JEDEC: MS-013-AC; Code_IPC: SOIC127P1030-20; ComponentLink1Description: Datasheet; ComponentLink1URL: http://ww1.microchip.com/downloads/en/DeviceDoc/41365C.pdf; ComponentLink2Description: Packaging Specification; ComponentLink2URL: http://www.microchip.com/stellent/groups/techpub_sg/documents/packagingspec/en012702.pdf; ComponentLink3Description: Microchip.com Home; ComponentLink3URL: http://www.microchip.com/
footprint SOIC-SO20_N (SOIC, 20-Leads, Body 12.8x7.5mm, Pitch 1.27mm, IPC Medium Density)
footprint SOIC-SO20_L (SOIC, 20-Leads, Body 12.8x7.5mm, Pitch 1.27mm, IPC High Density)
footprint SOIC-SO20_M (SOIC, 20-Leads, Body 12.8x7.5mm, Pitch 1.27mm, IPC Low Density)
pins: 1 VDD (power), 2 RA5/OSC1/CLKIN/T13CKI (io), 3 RA4/AN3/OSC2/CLKOUT (io), 4 RA3/~{MCLR}/VPP (in), 5 RC5/CCP1/P1A (io), 6 RC4/C2OUT/P1B/SRNQ (io), 7 RC3/AN7/C12IN3-/P1C/PGM (io), 8 RC6/AN8/~{SS} (io), 9 RC7/AN9/SDO (io), 10 RB7/TX/CK (io), 11 RB6/SCK/SCL (io), 12 RB5/AN11/RX/DT (io), 13 RB4/AN10/SDI/SDA (io), 14 RC2/AN6/C12IN2-/P1D (io), 15 RC1/AN5/C12IN1- (io), 16 RC0/AN4/C2IN+ (io), 17 RA2/AN2/C1OUT/T0CKI/INT2/SRQ (in), 18 RA1/AN1/C12IN0-/VREF+/INT1/PGC (io), 19 RA0/AN0/CVREF/VREF-/C1IN+/INT0/PGD (io), 20 VSS (power)

## PIC18LF14K22T-I/SS
designator U?
Flash Microcontroller with nanoWatt XLP Technology, 20-pin SSOP, Industrial Temperature, Tape and Reel; FirstPublished: 2-Dec-2009; DatasheetVersion: revC, Oct-2009; PackageVersion: revBB, Aug-2009; PackageReference: SSOP-SS20; Publisher: Altium Limited; PackageDescription: 20-Lead Plastic Shrink Small Outline (SS) - 5.3mm Body [SSOP]; Supplier 1: Digi-Key; Supplier Part Number 1: PIC18LF14K22T-I/SS-ND; Supplier 2: Newark; Supplier Part Number 2: 07P9716; Code_JEDEC: MO-150; Code_IPC: SOP65P780-20; ComponentLink1Description: Datasheet; ComponentLink1URL: http://ww1.microchip.com/downloads/en/DeviceDoc/41365C.pdf; ComponentLink2Description: Packaging Specification; ComponentLink2URL: http://www.microchip.com/stellent/groups/techpub_sg/documents/packagingspec/en012702.pdf; ComponentLink3Description: Microchip.com Home; ComponentLink3URL: http://www.microchip.com/
footprint SSOP-SS20_N (SOP, 20-Leads, Body 7.2x5.2mm, Pitch 0.65mm, IPC Medium Density)
footprint SSOP-SS20_L (SOP, 20-Leads, Body 7.2x5.2mm, Pitch 0.65mm, IPC High Density)
footprint SSOP-SS20_M (SOP, 20-Leads, Body 7.2x5.2mm, Pitch 0.65mm, IPC Low Density)
pins: 1 VDD (power), 2 RA5/OSC1/CLKIN/T13CKI (io), 3 RA4/AN3/OSC2/CLKOUT (io), 4 RA3/~{MCLR}/VPP (in), 5 RC5/CCP1/P1A (io), 6 RC4/C2OUT/P1B/SRNQ (io), 7 RC3/AN7/C12IN3-/P1C/PGM (io), 8 RC6/AN8/~{SS} (io), 9 RC7/AN9/SDO (io), 10 RB7/TX/CK (io), 11 RB6/SCK/SCL (io), 12 RB5/AN11/RX/DT (io), 13 RB4/AN10/SDI/SDA (io), 14 RC2/AN6/C12IN2-/P1D (io), 15 RC1/AN5/C12IN1- (io), 16 RC0/AN4/C2IN+ (io), 17 RA2/AN2/C1OUT/T0CKI/INT2/SRQ (in), 18 RA1/AN1/C12IN0-/VREF+/INT1/PGC (io), 19 RA0/AN0/CVREF/VREF-/C1IN+/INT0/PGD (io), 20 VSS (power)

## PIC18LF14K50-I/P
designator U?
USB Flash Microcontroller with nanoWatt XLP Technology, 20-pin PDIP, Industrial Temperature; FirstPublished: 2-Dec-2009; DatasheetVersion: revC, Mar-2009; PackageVersion: revBB, Aug-2009; PackageReference: PDIP300-P20; Publisher: Altium Limited; PackageDescription: 20-Lead Plastic Dual In-Line (P) - 300 mil Body [PDIP]; Supplier 1: Digi-Key; Supplier Part Number 1: PIC18LF14K50-I/P-ND; Supplier 2: Farnell; Supplier Part Number 2: 1698923; Supplier 3: Newark; Supplier Part Number 3: 07P9717; ComponentLink1Description: Datasheet; ComponentLink1URL: http://ww1.microchip.com/downloads/en/DeviceDoc/41350C.pdf; ComponentLink2Description: Packaging Specification; ComponentLink2URL: http://www.microchip.com/stellent/groups/techpub_sg/documents/packagingspec/en012702.pdf; ComponentLink3Description: Microchip.com Home; ComponentLink3URL: http://www.microchip.com/
footprint PDIP300-P20 (DIP, 20-Leads, Row Spacing 7.62mm, Pitch 2.54mm, Body 25.9x6.6mm)
pins: 1 VDD (power), 2 RA5/OSC1/CLKIN (io), 3 RA4/AN3/OSC2/CLKOUT (io), 4 RA3/~{MCLR}/VPP (in), 5 RC5/CCP1/P1A/T0CKI (io), 6 RC4/P1B/C12OUT/SRQ (io), 7 RC3/AN7/P1C/C12IN3-/PGM (io), 8 RC6/AN8/~{SS}/T13CKI/T1OSCI (io), 9 RC7/AN9/SDO/T1OSCO (io), 10 RB7/TX/CK (io), 11 RB6/SCK/SCL (io), 12 RB5/AN11/RX/DT (io), 13 RB4/AN10/SDI/SDA (io), 14 RC2/AN6/P1D/C12IN2-/CVREF/INT2 (io), 15 RC1/AN5/C12IN1-/INT1/VREF- (io), 16 RC0/AN4/C12IN+/INT0/VREF+ (io), 17 VUSB (in), 18 RA1/D-/PGC (io), 19 RA0/D+/PGD (io), 20 VSS (power)

## PIC18LF14K50-I/SO
designator U?
USB Flash Microcontroller with nanoWatt XLP Technology, 20-pin SOIC, Industrial Temperature; FirstPublished: 2-Dec-2009; DatasheetVersion: revC, Mar-2009; PackageVersion: revBB, Aug-2009; PackageReference: SOIC-SO20; Publisher: Altium Limited; PackageDescription: 20-Lead Plastic Small Outline (SO) - Wide 7.50mm Body [SOIC]; Supplier 1: Digi-Key; Supplier Part Number 1: PIC18LF14K50-I/SO-ND; Supplier 2: Farnell; Supplier Part Number 2: 1694948; Supplier 3: Farnell; Supplier Part Number 3: 1701040; Supplier 4: Newark; Supplier Part Number 4: 07P9718; Code_JEDEC: MS-013-AC; Code_IPC: SOIC127P1030-20; ComponentLink1Description: Datasheet; ComponentLink1URL: http://ww1.microchip.com/downloads/en/DeviceDoc/41350C.pdf; ComponentLink2Description: Packaging Specification; ComponentLink2URL: http://www.microchip.com/stellent/groups/techpub_sg/documents/packagingspec/en012702.pdf; ComponentLink3Description: Microchip.com Home; ComponentLink3URL: http://www.microchip.com/
footprint SOIC-SO20_N (SOIC, 20-Leads, Body 12.8x7.5mm, Pitch 1.27mm, IPC Medium Density)
footprint SOIC-SO20_L (SOIC, 20-Leads, Body 12.8x7.5mm, Pitch 1.27mm, IPC High Density)
footprint SOIC-SO20_M (SOIC, 20-Leads, Body 12.8x7.5mm, Pitch 1.27mm, IPC Low Density)
pins: 1 VDD (power), 2 RA5/OSC1/CLKIN (io), 3 RA4/AN3/OSC2/CLKOUT (io), 4 RA3/~{MCLR}/VPP (in), 5 RC5/CCP1/P1A/T0CKI (io), 6 RC4/P1B/C12OUT/SRQ (io), 7 RC3/AN7/P1C/C12IN3-/PGM (io), 8 RC6/AN8/~{SS}/T13CKI/T1OSCI (io), 9 RC7/AN9/SDO/T1OSCO (io), 10 RB7/TX/CK (io), 11 RB6/SCK/SCL (io), 12 RB5/AN11/RX/DT (io), 13 RB4/AN10/SDI/SDA (io), 14 RC2/AN6/P1D/C12IN2-/CVREF/INT2 (io), 15 RC1/AN5/C12IN1-/INT1/VREF- (io), 16 RC0/AN4/C12IN+/INT0/VREF+ (io), 17 VUSB (in), 18 RA1/D-/PGC (io), 19 RA0/D+/PGD (io), 20 VSS (power)

## PIC18LF14K50-I/SS
designator U?
USB Flash Microcontroller with nanoWatt XLP Technology, 20-pin SSOP, Industrial Temperature; FirstPublished: 2-Dec-2009; DatasheetVersion: revC, Mar-2009; PackageVersion: revBB, Aug-2009; PackageReference: SSOP-SS20; Publisher: Altium Limited; PackageDescription: 20-Lead Plastic Shrink Small Outline (SS) - 5.3mm Body [SSOP]; Supplier 1: Digi-Key; Supplier Part Number 1: PIC18LF14K50-I/SS-ND; Supplier 2: Farnell; Supplier Part Number 2: 1701041; Supplier 3: Farnell; Supplier Part Number 3: 1694949; Supplier 4: Newark; Supplier Part Number 4: 07P9719; Code_JEDEC: MO-150; Code_IPC: SOP65P780-20; ComponentLink1Description: Datasheet; ComponentLink1URL: http://ww1.microchip.com/downloads/en/DeviceDoc/41350C.pdf; ComponentLink2Description: Packaging Specification; ComponentLink2URL: http://www.microchip.com/stellent/groups/techpub_sg/documents/packagingspec/en012702.pdf; ComponentLink3Description: Microchip.com Home; ComponentLink3URL: http://www.microchip.com/
footprint SSOP-SS20_N (SOP, 20-Leads, Body 7.2x5.2mm, Pitch 0.65mm, IPC Medium Density)
footprint SSOP-SS20_L (SOP, 20-Leads, Body 7.2x5.2mm, Pitch 0.65mm, IPC High Density)
footprint SSOP-SS20_M (SOP, 20-Leads, Body 7.2x5.2mm, Pitch 0.65mm, IPC Low Density)
pins: 1 VDD (power), 2 RA5/OSC1/CLKIN (io), 3 RA4/AN3/OSC2/CLKOUT (io), 4 RA3/~{MCLR}/VPP (in), 5 RC5/CCP1/P1A/T0CKI (io), 6 RC4/P1B/C12OUT/SRQ (io), 7 RC3/AN7/P1C/C12IN3-/PGM (io), 8 RC6/AN8/~{SS}/T13CKI/T1OSCI (io), 9 RC7/AN9/SDO/T1OSCO (io), 10 RB7/TX/CK (io), 11 RB6/SCK/SCL (io), 12 RB5/AN11/RX/DT (io), 13 RB4/AN10/SDI/SDA (io), 14 RC2/AN6/P1D/C12IN2-/CVREF/INT2 (io), 15 RC1/AN5/C12IN1-/INT1/VREF- (io), 16 RC0/AN4/C12IN+/INT0/VREF+ (io), 17 VUSB (in), 18 RA1/D-/PGC (io), 19 RA0/D+/PGD (io), 20 VSS (power)

## PIC18LF14K50T-I/SO
designator U?
USB Flash Microcontroller with nanoWatt XLP Technology, 20-pin SOIC, Industrial Temperature, Tape and Reel; FirstPublished: 2-Dec-2009; DatasheetVersion: revC, Mar-2009; PackageVersion: revBB, Aug-2009; PackageReference: SOIC-SO20; Publisher: Altium Limited; PackageDescription: 20-Lead Plastic Small Outline (SO) - Wide 7.50mm Body [SOIC]; Supplier 1: Digi-Key; Supplier Part Number 1: PIC18LF14K50T-I/SO-ND; Supplier 2: Newark; Supplier Part Number 2: 07P9720; Code_JEDEC: MS-013-AC; Code_IPC: SOIC127P1030-20; ComponentLink1Description: Datasheet; ComponentLink1URL: http://ww1.microchip.com/downloads/en/DeviceDoc/41350C.pdf; ComponentLink2Description: Packaging Specification; ComponentLink2URL: http://www.microchip.com/stellent/groups/techpub_sg/documents/packagingspec/en012702.pdf; ComponentLink3Description: Microchip.com Home; ComponentLink3URL: http://www.microchip.com/
footprint SOIC-SO20_N (SOIC, 20-Leads, Body 12.8x7.5mm, Pitch 1.27mm, IPC Medium Density)
footprint SOIC-SO20_L (SOIC, 20-Leads, Body 12.8x7.5mm, Pitch 1.27mm, IPC High Density)
footprint SOIC-SO20_M (SOIC, 20-Leads, Body 12.8x7.5mm, Pitch 1.27mm, IPC Low Density)
pins: 1 VDD (power), 2 RA5/OSC1/CLKIN (io), 3 RA4/AN3/OSC2/CLKOUT (io), 4 RA3/~{MCLR}/VPP (in), 5 RC5/CCP1/P1A/T0CKI (io), 6 RC4/P1B/C12OUT/SRQ (io), 7 RC3/AN7/P1C/C12IN3-/PGM (io), 8 RC6/AN8/~{SS}/T13CKI/T1OSCI (io), 9 RC7/AN9/SDO/T1OSCO (io), 10 RB7/TX/CK (io), 11 RB6/SCK/SCL (io), 12 RB5/AN11/RX/DT (io), 13 RB4/AN10/SDI/SDA (io), 14 RC2/AN6/P1D/C12IN2-/CVREF/INT2 (io), 15 RC1/AN5/C12IN1-/INT1/VREF- (io), 16 RC0/AN4/C12IN+/INT0/VREF+ (io), 17 VUSB (in), 18 RA1/D-/PGC (io), 19 RA0/D+/PGD (io), 20 VSS (power)

## PIC18LF14K50T-I/SS
designator U?
USB Flash Microcontroller with nanoWatt XLP Technology, 20-pin SSOP, Industrial Temperature, Tape and Reel; FirstPublished: 2-Dec-2009; DatasheetVersion: revC, Mar-2009; PackageVersion: revBB, Aug-2009; PackageReference: SSOP-SS20; Publisher: Altium Limited; PackageDescription: 20-Lead Plastic Shrink Small Outline (SS) - 5.3mm Body [SSOP]; Supplier 1: Digi-Key; Supplier Part Number 1: PIC18LF14K50T-I/SS-ND; Supplier 2: Newark; Supplier Part Number 2: 07P9721; Code_JEDEC: MO-150; Code_IPC: SOP65P780-20; ComponentLink1Description: Datasheet; ComponentLink1URL: http://ww1.microchip.com/downloads/en/DeviceDoc/41350C.pdf; ComponentLink2Description: Packaging Specification; ComponentLink2URL: http://www.microchip.com/stellent/groups/techpub_sg/documents/packagingspec/en012702.pdf; ComponentLink3Description: Microchip.com Home; ComponentLink3URL: http://www.microchip.com/
footprint SSOP-SS20_N (SOP, 20-Leads, Body 7.2x5.2mm, Pitch 0.65mm, IPC Medium Density)
footprint SSOP-SS20_L (SOP, 20-Leads, Body 7.2x5.2mm, Pitch 0.65mm, IPC High Density)
footprint SSOP-SS20_M (SOP, 20-Leads, Body 7.2x5.2mm, Pitch 0.65mm, IPC Low Density)
pins: 1 VDD (power), 2 RA5/OSC1/CLKIN (io), 3 RA4/AN3/OSC2/CLKOUT (io), 4 RA3/~{MCLR}/VPP (in), 5 RC5/CCP1/P1A/T0CKI (io), 6 RC4/P1B/C12OUT/SRQ (io), 7 RC3/AN7/P1C/C12IN3-/PGM (io), 8 RC6/AN8/~{SS}/T13CKI/T1OSCI (io), 9 RC7/AN9/SDO/T1OSCO (io), 10 RB7/TX/CK (io), 11 RB6/SCK/SCL (io), 12 RB5/AN11/RX/DT (io), 13 RB4/AN10/SDI/SDA (io), 14 RC2/AN6/P1D/C12IN2-/CVREF/INT2 (io), 15 RC1/AN5/C12IN1-/INT1/VREF- (io), 16 RC0/AN4/C12IN+/INT0/VREF+ (io), 17 VUSB (in), 18 RA1/D-/PGC (io), 19 RA0/D+/PGD (io), 20 VSS (power)

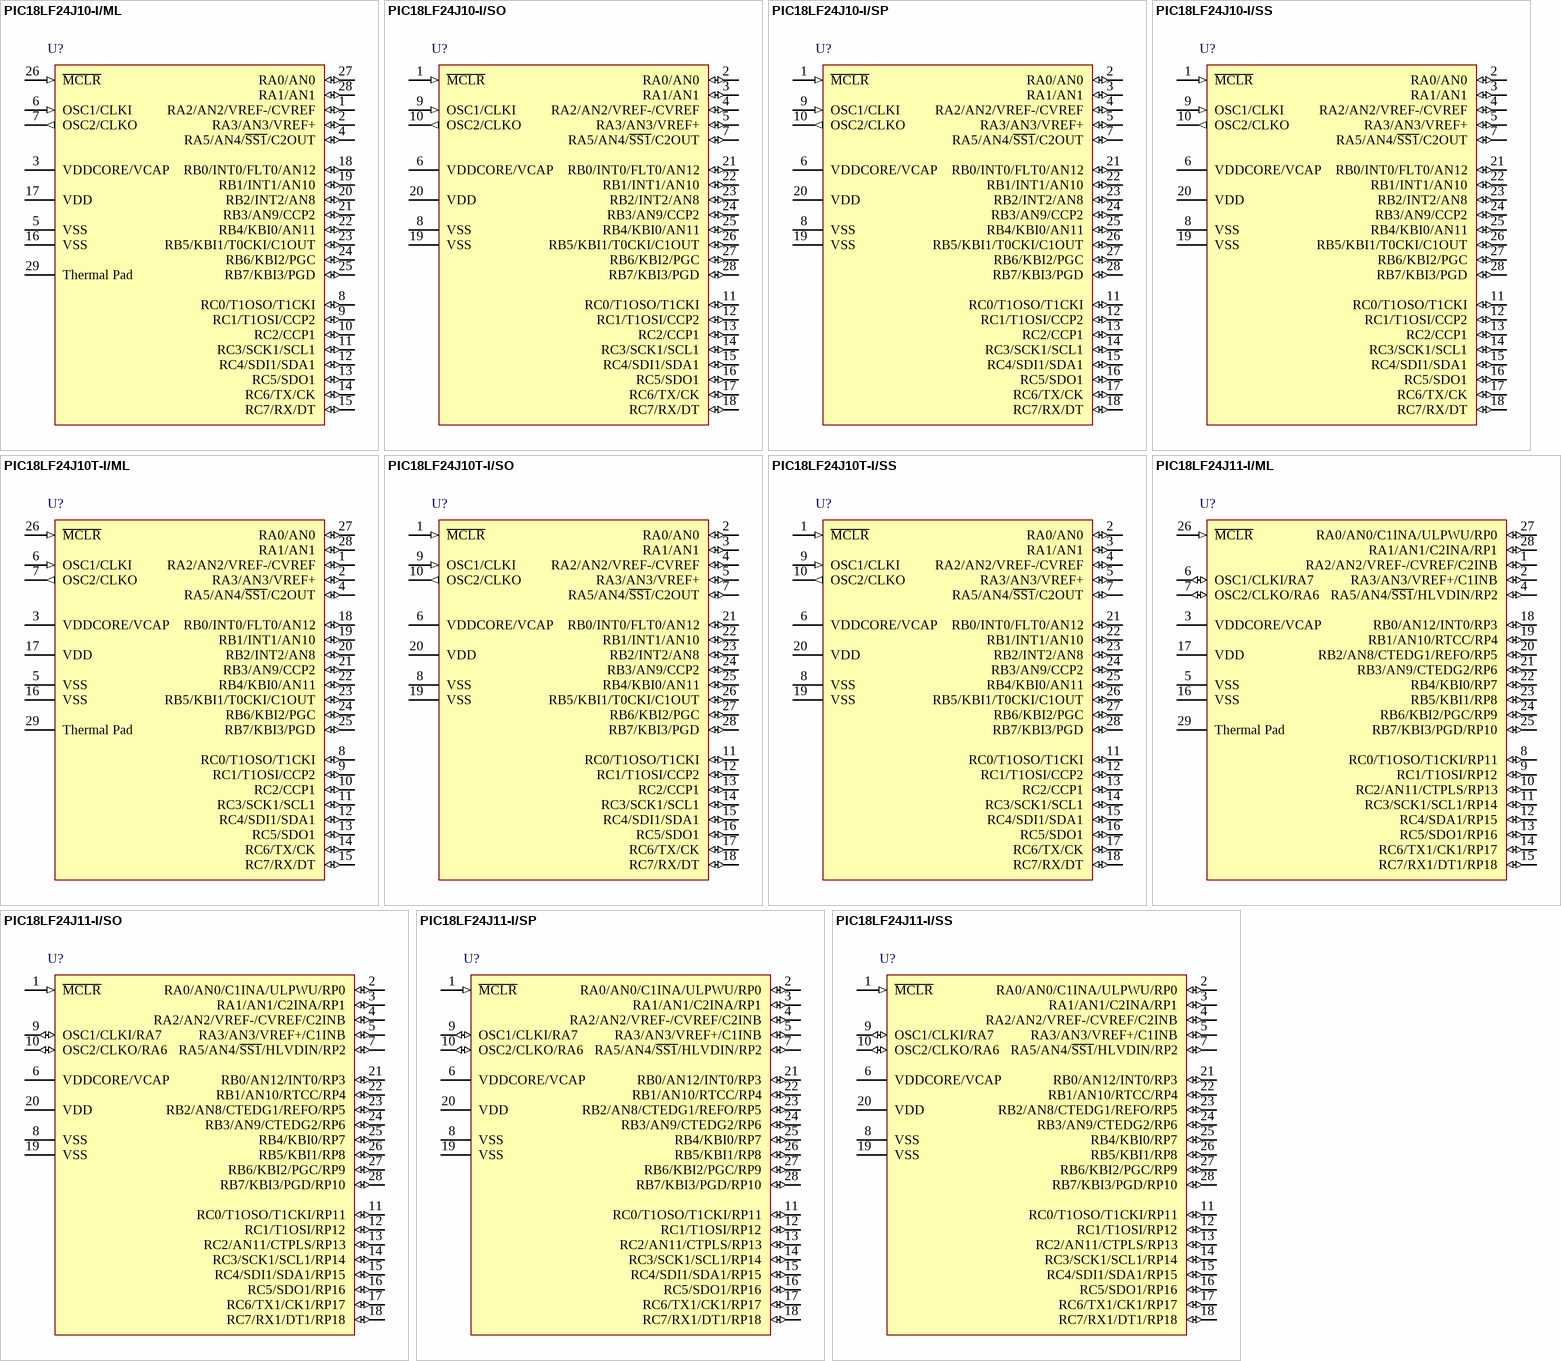
[diagram p106: symbols PIC18LF24J10-I/ML to PIC18LF24J11-I/SS]

## PIC18LF24J10-I/ML
designator U?
High Performance RISC Microcontroller with nanoWatt Technology, 16K Flash, 28-Pin QFN, Industrial Temperature Range; FirstPublished: 29-Jan-2009; LatestRevisionDate: 02-Dec-2009; LatestRevisionNote: Updated to datasheet revision E, May-2009; DatasheetVersion: revE, May-2009; PackageVersion: revBB, Aug-2009; PackageReference: QFN-ML28; Publisher: Altium Limited; PackageDescription: 28-Lead Plastic Quad Flat, No Lead Package (ML) - 6x6 mm Body [QFN] with 0.55 mm Contact Length; Supplier 1: Digi-Key; Supplier Part Number 1: PIC18LF24J10-I/ML-ND; Supplier 2: Newark; Supplier Part Number 2: 31K5070; Code_JEDEC: MO-220; Code_IPC: QFN65P600X600-28V; ComponentLink1Description: Datasheet; ComponentLink1URL: http://ww1.microchip.com/downloads/en/DeviceDoc/39682E.pdf; ComponentLink2Description: Packaging Specification; ComponentLink2URL: http://www.microchip.com/stellent/groups/techpub_sg/documents/packagingspec/en012702.pdf; ComponentLink3Description: Microchip.com Home; ComponentLink3URL: http://www.microchip.com/
footprint QFN-ML28_N (QFN, 28-Leads, Body 6x6 mm, Pitch 0.65mm, IPC Medium Density)
footprint QFN-ML28_L (QFN, 28-Leads, Body 6x6 mm, Pitch 0.65mm, IPC High Density)
footprint QFN-ML28_M (QFN, 28-Leads, Body 6x6 mm, Pitch 0.65mm, IPC Low Density)
pins: 1 RA2/AN2/VREF-/CVREF (io), 2 RA3/AN3/VREF+ (io), 3 VDDCORE/VCAP (power), 4 RA5/AN4/~{SS1}/C2OUT (io), 5 VSS (power), 6 OSC1/CLKI (in), 7 OSC2/CLKO (out), 8 RC0/T1OSO/T1CKI (io), 9 RC1/T1OSI/CCP2 (io), 10 RC2/CCP1 (io), 11 RC3/SCK1/SCL1 (io), 12 RC4/SDI1/SDA1 (io), 13 RC5/SDO1 (io), 14 RC6/TX/CK (io), 15 RC7/RX/DT (io), 16 VSS (power), 17 VDD (power), 18 RB0/INT0/FLT0/AN12 (io), 19 RB1/INT1/AN10 (io), 20 RB2/INT2/AN8 (io), 21 RB3/AN9/CCP2 (io), 22 RB4/KBI0/AN11 (io), 23 RB5/KBI1/T0CKI/C1OUT (io), 24 RB6/KBI2/PGC (io), 25 RB7/KBI3/PGD (io), 26 ~{MCLR} (in), 27 RA0/AN0 (io), 28 RA1/AN1 (io), 29 Thermal Pad (power)

## PIC18LF24J10-I/SO
designator U?
High Performance RISC Microcontroller with nanoWatt Technology, 16K Flash, 28-Pin SOIC, Industrial Temperature Range; FirstPublished: 29-Jan-2009; LatestRevisionDate: 02-Dec-2009; LatestRevisionNote: Updated to datasheet revision E, May-2009; DatasheetVersion: revE, May-2009; PackageVersion: revBB, Aug-2009; PackageReference: SOIC-SO28; Publisher: Altium Limited; PackageDescription: 28-Lead Plastic Small Outline (SO) - Wide 7.50mm Body [SOIC]; Supplier 1: Digi-Key; Supplier Part Number 1: PIC18LF24J10-I/SO-ND; Supplier 2: Newark; Supplier Part Number 2: 31K5071; Code_JEDEC: MS-013; ComponentLink1Description: Datasheet; ComponentLink1URL: http://ww1.microchip.com/downloads/en/DeviceDoc/39682E.pdf; ComponentLink2Description: Packaging Specification; ComponentLink2URL: http://www.microchip.com/stellent/groups/techpub_sg/documents/packagingspec/en012702.pdf; ComponentLink3Description: Microchip.com Home; ComponentLink3URL: http://www.microchip.com/
footprint SOIC-SO28_N (SOIC, 28-Leads, Body 17.9x7.5mm, Pitch 1.27mm, IPC Medium Density)
footprint SOIC-SO28_L (SOIC, 28-Leads, Body 17.9x7.5mm, Pitch 1.27mm, IPC High Density)
footprint SOIC-SO28_M (SOIC, 28-Leads, Body 17.9x7.5mm, Pitch 1.27mm, IPC Low Density)
pins: 1 ~{MCLR} (in), 2 RA0/AN0 (io), 3 RA1/AN1 (io), 4 RA2/AN2/VREF-/CVREF (io), 5 RA3/AN3/VREF+ (io), 6 VDDCORE/VCAP (power), 7 RA5/AN4/~{SS1}/C2OUT (io), 8 VSS (power), 9 OSC1/CLKI (in), 10 OSC2/CLKO (out), 11 RC0/T1OSO/T1CKI (io), 12 RC1/T1OSI/CCP2 (io), 13 RC2/CCP1 (io), 14 RC3/SCK1/SCL1 (io), 15 RC4/SDI1/SDA1 (io), 16 RC5/SDO1 (io), 17 RC6/TX/CK (io), 18 RC7/RX/DT (io), 19 VSS (power), 20 VDD (power), 21 RB0/INT0/FLT0/AN12 (io), 22 RB1/INT1/AN10 (io), 23 RB2/INT2/AN8 (io), 24 RB3/AN9/CCP2 (io), 25 RB4/KBI0/AN11 (io), 26 RB5/KBI1/T0CKI/C1OUT (io), 27 RB6/KBI2/PGC (io), 28 RB7/KBI3/PGD (io)

## PIC18LF24J10-I/SP
designator U?
High Performance RISC Microcontroller with nanoWatt Technology, 16K Flash, 28-Pin SPDIP, Industrial Temperature Range; FirstPublished: 29-Jan-2009; LatestRevisionDate: 02-Dec-2009; LatestRevisionNote: Updated to datasheet revision E, May-2009; DatasheetVersion: revE, May-2009; PackageVersion: revBB, Aug-2009; PackageReference: SPDIP300-SP28; Publisher: Altium Limited; PackageDescription: 28-Lead Skinny Plastic Dual In-Line (SP) - 300 mil Body [SPDIP]; Supplier 1: Digi-Key; Supplier Part Number 1: PIC18LF24J10-I/SP-ND; Supplier 2: Newark; Supplier Part Number 2: 31K5072; ComponentLink1Description: Datasheet; ComponentLink1URL: http://ww1.microchip.com/downloads/en/DeviceDoc/39682E.pdf; ComponentLink2Description: Packaging Specification; ComponentLink2URL: http://www.microchip.com/stellent/groups/techpub_sg/documents/packagingspec/en012702.pdf; ComponentLink3Description: Microchip.com Home; ComponentLink3URL: http://www.microchip.com/
footprint SPDIP300-SP28 (DIP, 28-Leads, Row Spacing 7.62mm, Pitch 2.54mm, Body 34.9x6.8mm)
pins: 1 ~{MCLR} (in), 2 RA0/AN0 (io), 3 RA1/AN1 (io), 4 RA2/AN2/VREF-/CVREF (io), 5 RA3/AN3/VREF+ (io), 6 VDDCORE/VCAP (power), 7 RA5/AN4/~{SS1}/C2OUT (io), 8 VSS (power), 9 OSC1/CLKI (in), 10 OSC2/CLKO (out), 11 RC0/T1OSO/T1CKI (io), 12 RC1/T1OSI/CCP2 (io), 13 RC2/CCP1 (io), 14 RC3/SCK1/SCL1 (io), 15 RC4/SDI1/SDA1 (io), 16 RC5/SDO1 (io), 17 RC6/TX/CK (io), 18 RC7/RX/DT (io), 19 VSS (power), 20 VDD (power), 21 RB0/INT0/FLT0/AN12 (io), 22 RB1/INT1/AN10 (io), 23 RB2/INT2/AN8 (io), 24 RB3/AN9/CCP2 (io), 25 RB4/KBI0/AN11 (io), 26 RB5/KBI1/T0CKI/C1OUT (io), 27 RB6/KBI2/PGC (io), 28 RB7/KBI3/PGD (io)

## PIC18LF24J10-I/SS
designator U?
High Performance RISC Microcontroller with nanoWatt Technology, 16K Flash, 28-Pin SSOP, Industrial Temperature Range; FirstPublished: 29-Jan-2009; LatestRevisionDate: 02-Dec-2009; LatestRevisionNote: Updated to datasheet revision E, May-2009; DatasheetVersion: revE, May-2009; PackageVersion: revBB, Aug-2009; PackageReference: SSOP-SS28; Publisher: Altium Limited; PackageDescription: 28-Lead Plastic Shrink Small Outline (SS) - 5.3mm Body [SSOP]; Supplier 1: Digi-Key; Supplier Part Number 1: PIC18LF24J10-I/SS-ND; Supplier 2: Newark; Supplier Part Number 2: 31K5073; Code_JEDEC: MS-150; Code_IPC: SOP65P780-28; ComponentLink1Description: Datasheet; ComponentLink1URL: http://ww1.microchip.com/downloads/en/DeviceDoc/39682E.pdf; ComponentLink2Description: Packaging Specification; ComponentLink2URL: http://www.microchip.com/stellent/groups/techpub_sg/documents/packagingspec/en012702.pdf; ComponentLink3Description: Microchip.com Home; ComponentLink3URL: http://www.microchip.com/
footprint SSOP-SS28_N (SOP, 28-Leads, Body 10.2x5.2mm, Pitch 0.65mm, IPC Medium Density)
footprint SSOP-SS28_L (SOP, 28-Leads, Body 10.2x5.2mm, Pitch 0.65mm, IPC High Density)
footprint SSOP-SS28_M (SOP, 28-Leads, Body 10.2x5.2mm, Pitch 0.65mm, IPC Low Density)
pins: 1 ~{MCLR} (in), 2 RA0/AN0 (io), 3 RA1/AN1 (io), 4 RA2/AN2/VREF-/CVREF (io), 5 RA3/AN3/VREF+ (io), 6 VDDCORE/VCAP (power), 7 RA5/AN4/~{SS1}/C2OUT (io), 8 VSS (power), 9 OSC1/CLKI (in), 10 OSC2/CLKO (out), 11 RC0/T1OSO/T1CKI (io), 12 RC1/T1OSI/CCP2 (io), 13 RC2/CCP1 (io), 14 RC3/SCK1/SCL1 (io), 15 RC4/SDI1/SDA1 (io), 16 RC5/SDO1 (io), 17 RC6/TX/CK (io), 18 RC7/RX/DT (io), 19 VSS (power), 20 VDD (power), 21 RB0/INT0/FLT0/AN12 (io), 22 RB1/INT1/AN10 (io), 23 RB2/INT2/AN8 (io), 24 RB3/AN9/CCP2 (io), 25 RB4/KBI0/AN11 (io), 26 RB5/KBI1/T0CKI/C1OUT (io), 27 RB6/KBI2/PGC (io), 28 RB7/KBI3/PGD (io)

## PIC18LF24J10T-I/ML
designator U?
High Performance RISC Microcontroller with nanoWatt Technology, 16K Flash, 28-Pin QFN, Industrial Temperature Range, Tape and Reel; FirstPublished: 29-Jan-2009; LatestRevisionDate: 02-Dec-2009; LatestRevisionNote: Updated to datasheet revision E, May-2009; DatasheetVersion: revE, May-2009; PackageVersion: revBB, Aug-2009; PackageReference: QFN-ML28; Publisher: Altium Limited; PackageDescription: 28-Lead Plastic Quad Flat, No Lead Package (ML) - 6x6 mm Body [QFN] with 0.55 mm Contact Length; Supplier 1: Digi-Key; Supplier Part Number 1: PIC18LF24J10T-I/MLCT-ND; Supplier 2: Digi-Key; Supplier Part Number 2: PIC18LF24J10T-I/MLTR-ND; Supplier 3: Newark; Supplier Part Number 3: 31K5074; Code_JEDEC: MO-220; Code_IPC: QFN65P600X600-28V; ComponentLink1Description: Datasheet; ComponentLink1URL: http://ww1.microchip.com/downloads/en/DeviceDoc/39682E.pdf; ComponentLink2Description: Packaging Specification; ComponentLink2URL: http://www.microchip.com/stellent/groups/techpub_sg/documents/packagingspec/en012702.pdf; ComponentLink3Description: Microchip.com Home; ComponentLink3URL: http://www.microchip.com/
footprint QFN-ML28_N (QFN, 28-Leads, Body 6x6 mm, Pitch 0.65mm, IPC Medium Density)
footprint QFN-ML28_L (QFN, 28-Leads, Body 6x6 mm, Pitch 0.65mm, IPC High Density)
footprint QFN-ML28_M (QFN, 28-Leads, Body 6x6 mm, Pitch 0.65mm, IPC Low Density)
pins: 1 RA2/AN2/VREF-/CVREF (io), 2 RA3/AN3/VREF+ (io), 3 VDDCORE/VCAP (power), 4 RA5/AN4/~{SS1}/C2OUT (io), 5 VSS (power), 6 OSC1/CLKI (in), 7 OSC2/CLKO (out), 8 RC0/T1OSO/T1CKI (io), 9 RC1/T1OSI/CCP2 (io), 10 RC2/CCP1 (io), 11 RC3/SCK1/SCL1 (io), 12 RC4/SDI1/SDA1 (io), 13 RC5/SDO1 (io), 14 RC6/TX/CK (io), 15 RC7/RX/DT (io), 16 VSS (power), 17 VDD (power), 18 RB0/INT0/FLT0/AN12 (io), 19 RB1/INT1/AN10 (io), 20 RB2/INT2/AN8 (io), 21 RB3/AN9/CCP2 (io), 22 RB4/KBI0/AN11 (io), 23 RB5/KBI1/T0CKI/C1OUT (io), 24 RB6/KBI2/PGC (io), 25 RB7/KBI3/PGD (io), 26 ~{MCLR} (in), 27 RA0/AN0 (io), 28 RA1/AN1 (io), 29 Thermal Pad (power)